# Altium schematic symbol library IS903.SCHLIB: 5 symbols
Pins are listed as number, name and electrical type; pins without a type are passive.

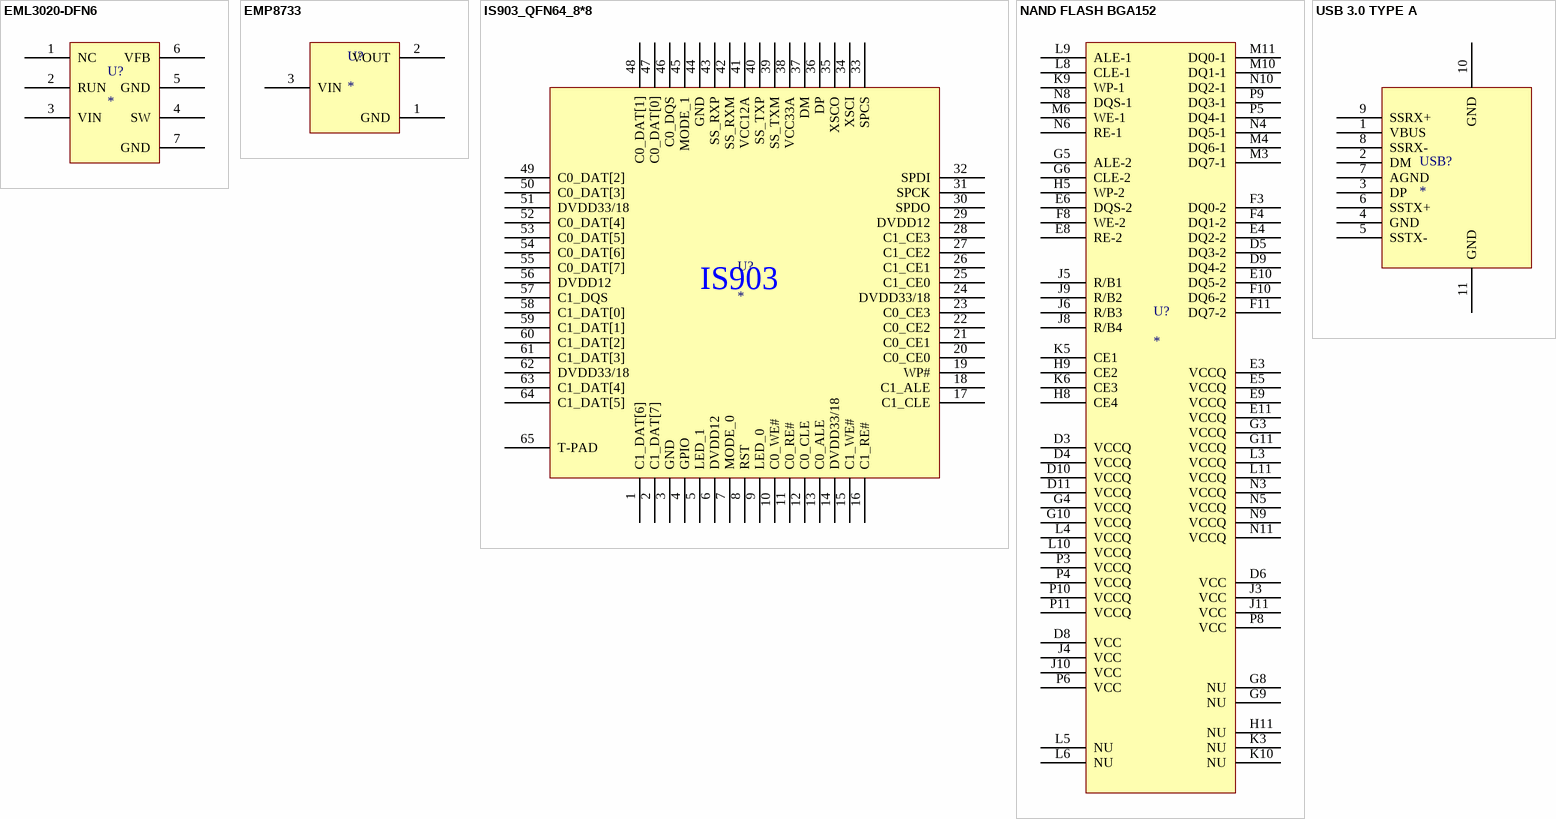
[diagram p0: symbols EML3020-DFN6 to USB 3.0 TYPE A]

## EML3020-DFN6
designator U?
pins: 1 NC, 2 RUN, 3 VIN, 4 SW, 5 GND, 6 VFB, 7 GND

## EMP8733
designator U?
pins: 1 GND, 2 VOUT, 3 VIN

## IS903_QFN64_8*8
designator U?
pins: 1 C1_DAT[6], 2 C1_DAT[7], 3 GND, 4 GPIO, 5 LED_1, 6 DVDD12, 7 MODE_0, 8 RST, 9 LED_0, 10 C0_WE#, 11 C0_RE#, 12 C0_CLE, 13 C0_ALE, 14 DVDD33/18, 15 C1_WE#, 16 C1_RE#, 17 C1_CLE, 18 C1_ALE, 19 WP#, 20 C0_CE0, 21 C0_CE1, 22 C0_CE2, 23 C0_CE3, 24 DVDD33/18, 25 C1_CE0, 26 C1_CE1, 27 C1_CE2, 28 C1_CE3, 29 DVDD12, 30 SPDO, 31 SPCK, 32 SPDI, 33 SPCS, 34 XSCI, 35 XSCO, 36 DP, 37 DM, 38 VCC33A, 39 SS_TXM, 40 SS_TXP, 41 VCC12A, 42 SS_RXM, 43 SS_RXP, 44 GND, 45 MODE_1, 46 C0_DQS, 47 C0_DAT[0], 48 C0_DAT[1], 49 C0_DAT[2], 50 C0_DAT[3], 51 DVDD33/18, 52 C0_DAT[4], 53 C0_DAT[5], 54 C0_DAT[6], 55 C0_DAT[7], 56 DVDD12, 57 C1_DQS, 58 C1_DAT[0], 59 C1_DAT[1], 60 C1_DAT[2], 61 C1_DAT[3], 62 DVDD33/18, 63 C1_DAT[4], 64 C1_DAT[5], 65 T-PAD
text: IS903

## NAND FLASH BGA152
designator U?
pins: D3 VCCQ, D4 VCCQ, D5 DQ3-2, D6 VCC, D8 VCC, D9 DQ4-2, D10 VCCQ, D11 VCCQ, E3 VCCQ, E4 DQ2-2, E5 VCCQ, E6 DQS-2, E8 RE-2, E9 VCCQ, E10 DQ5-2, E11 VCCQ, F3 DQ0-2, F4 DQ1-2, F8 WE-2, F10 DQ6-2, F11 DQ7-2, G3 VCCQ, G4 VCCQ, G5 ALE-2, G6 CLE-2, G8 NU, G9 NU, G10 VCCQ, G11 VCCQ, H5 WP-2, H8 CE4, H9 CE2, H11 NU, J3 VCC, J4 VCC, J5 R/B1, J6 R/B3, J8 R/B4, J9 R/B2, J10 VCC, J11 VCC, K3 NU, K5 CE1, K6 CE3, K9 WP-1, K10 NU, L3 VCCQ, L4 VCCQ, L5 NU, L6 NU, L8 CLE-1, L9 ALE-1, L10 VCCQ, L11 VCCQ, M3 DQ7-1, M4 DQ6-1, M6 WE-1, M10 DQ1-1, M11 DQ0-1, N3 VCCQ, N4 DQ5-1, N5 VCCQ, N6 RE-1, N8 DQS-1, N9 VCCQ, N10 DQ2-1, N11 VCCQ, P3 VCCQ, P4 VCCQ, P5 DQ4-1, P6 VCC, P8 VCC, P9 DQ3-1, P10 VCCQ, P11 VCCQ

## USB 3.0 TYPE A
designator USB?
pins: 1 VBUS, 2 DM, 3 DP, 4 GND, 5 SSTX-, 6 SSTX+, 7 AGND, 8 SSRX-, 9 SSRX+, 10 GND, 11 GND